# EAGLE library part 74HCT139D (library imported-parts)
Dual 2-to-4 line decoder
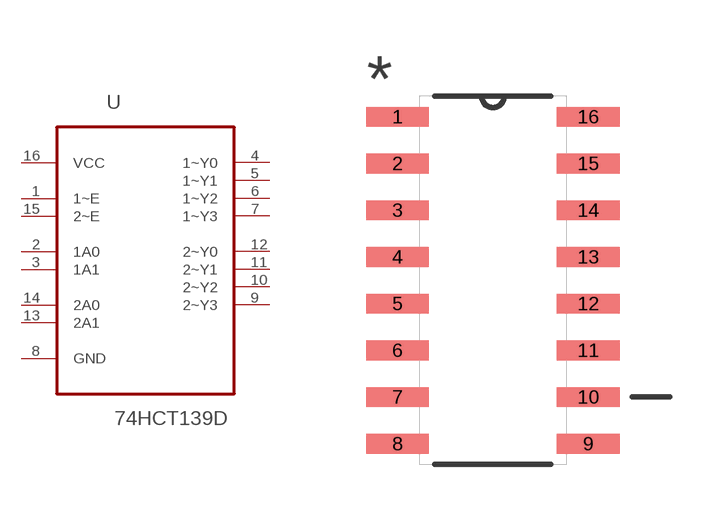
[diagram p12: symbol with the pads of SOIC127P600X175-16N; footprint SOIC127P600X175-16N]

Designator prefix U

## 74HCT139D (MPN: 74HCT139D; OC_FARNELL: 1085308; OC_NEWARK: 99K0549; PACKAGE: SOIC-16; SUPPLIER: NXP)  [SOIC127P600X175-16N]
1  1~E  in
2  1A0  in
3  1A1  in
4  1~Y0  out
5  1~Y1  out
6  1~Y2  out
7  1~Y3  out
8  GND  pas
9  2~Y3  out
10  2~Y2  out
11  2~Y1  out
12  2~Y0  out
13  2A1  in
14  2A0  in
15  2~E  in
16  VCC  pwr

## Footprint SOIC127P600X175-16N (pad centres in mm)
smd 1.702 x 0.533: 1 -2.591,4.445; 2 -2.591,3.175; 3 -2.591,1.905; 4 -2.591,0.635; 5 -2.591,-0.635; 6 -2.591,-1.905; 7 -2.591,-3.175; 8 -2.591,-4.445; 9 2.591,-4.445; 10 2.591,-3.175; 11 2.591,-1.905; 12 2.591,-0.635; 13 2.591,0.635; 14 2.591,1.905; 15 2.591,3.175; 16 2.591,4.445